# EAGLE library part RP-PICO (library RP_Pico-pinout-throughole)
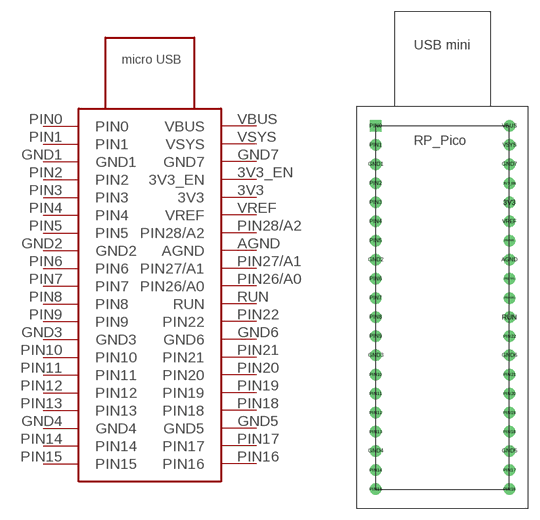
[diagram p0: symbol with the pads of RP-PICO; footprint RP-PICO]

Designator prefix -

## RP-PICO  [RP-PICO]
3V3  3V3
3V3_EN  3V3_EN
AGND  AGND
GND1  GND1
GND2  GND2
GND3  GND3
GND4  GND4
GND5  GND5
GND6  GND6
GND7  GND7
PIN0  PIN0
PIN1  PIN1
PIN2  PIN2
PIN3  PIN3
PIN4  PIN4
PIN5  PIN5
PIN6  PIN6
PIN7  PIN7
PIN8  PIN8
PIN9  PIN9
PIN10  PIN10
PIN11  PIN11
PIN12  PIN12
PIN13  PIN13
PIN14  PIN14
PIN15  PIN15
PIN16  PIN16
PIN17  PIN17
PIN18  PIN18
PIN19  PIN19
PIN20  PIN20
PIN21  PIN21
PIN22  PIN22
PIN26/A0  PIN26/A0
PIN27/A1  PIN27/A1
PIN28/A2  PIN28/A2
RUN  RUN
VBUS  VBUS
VREF  VREF
VSYS  VSYS

## Footprint RP-PICO (pad centres in mm)
drill 1.016: 3V3 17.78,38.1; 3V3_EN 17.78,40.64; AGND 17.78,30.48; GND1 0,43.18; GND2 0,30.48; GND3 0,17.78; GND4 0,5.08; GND5 17.78,5.08; GND6 17.78,17.78; GND7 17.78,43.18; PIN1 0,45.72; PIN2 0,40.64; PIN3 0,38.1; PIN4 0,35.56; PIN5 0,33.02; PIN6 0,27.94; PIN7 0,25.4; PIN8 0,22.86; PIN9 0,20.32; PIN10 0,15.24; PIN11 0,12.7; PIN12 0,10.16; PIN13 0,7.62; PIN14 0,2.54; PIN15 0,0; PIN16 17.78,0; PIN17 17.78,2.54; PIN18 17.78,7.62; PIN19 17.78,10.16; PIN20 17.78,12.7; PIN21 17.78,15.24; PIN22 17.78,20.32; PIN26/A0 17.78,25.4; PIN27/A1 17.78,27.94; PIN28/A2 17.78,33.02; RUN 17.78,22.86; VBUS 17.78,48.26; VREF 17.78,35.56; VSYS 17.78,45.72
drill 1.016 square: PIN0 0,48.26